# Altium footprint library E2S_E2S_032_V1.PcbLib: 3 footprints
Each footprint in its own frame and in the unit in brackets; x right, y up, seen from the top. Pads: shape width x height; smd on the part's side, far side on the other; paste and mask are expansions set on the pad; w line width, h text height; cw(c..) or ccw(c..) is an arc to the next point about the centre after c.
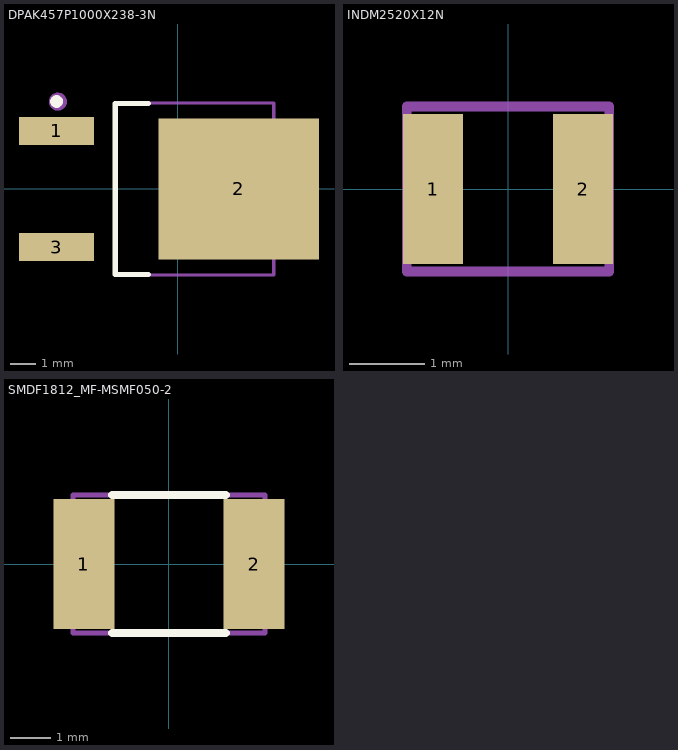
[diagram p0: the footprints below, top view; thin cyan lines are the x and y axes]

## DPAK457P1000X238-3N [mm] "D-PAK, 3-Pads, Body 6.21x6.73mm (max), IPC Medium Density"
height 2.38
pads (3):
  rect 2.95x1.1 smd: 1(-4.75,2.285) 3(-4.75,-2.285)
  rect 6.3x5.55 smd: 2(2.4,0)
Top Overlay:
  circle w0.25: c-4.75,3.435 r0.125
  lines w0.203: -1.15,-3.35 -2.45,-3.35 -2.45,3.35 -1.15,3.35
Top Mechanical_Designator:
  text "'.Designator'" at 0,0 h3
Assembly Top:
  circle w0.2: c-4.699,3.429 r0.254
  lines w0.127: -2.45,-3.375 -2.45,3.375 3.77,3.375 3.77,-3.375 -2.45,-3.375
3D body "DPAK457P1000X238-3N.step": height 3.31, standoff 0, extent -4.415,-3.375 5.585,3.375

## INDM2520X12N [mm] "Molded Inductor, 2-Leads, Body 2.50x2.00mm, IPC Medium Density"
height 1.2
pads (2):
  rect 0.8x2 smd: 1(-1,0) 2(1,0)
Top Mechanical_Designator:
  text ".Designator" at 0,0 h1.52
Assembly Top:
  lines w0.127: -1.35,-1.1 -1.35,1.1 1.35,1.1 1.35,-1.1 -1.35,-1.1
3D body "INDM2520X12N.step": height 1.2, standoff 0, extent -1.57,-1.1 1.57,1.1

## SMDF1812_MF-MSMF050-2 [mm] "PTC RESET FUSE 16V 2A 1812"
height 0.85
pads (2):
  rect 1.5x3.2 smd: 1(-2.1,0) 2(2.1,0)
Top Overlay:
  lines w0.203: -1.4,-1.7 1.4,-1.7 ; -1.4,1.7 1.4,1.7
Top Mechanical_Designator:
  text ".Designator" at 0,0 h1.52
Assembly Top:
  lines w0.127: -2.365,-1.705 2.365,-1.705 2.365,1.705 -2.365,1.705 -2.365,-1.705
3D body "1812L.step": height 1.34, standoff 0, extent -2.365,-1.705 2.365,1.705